# Altium schematic symbol library 686 1xx 148 922.SchLib: 15 symbols
Pins are listed as number, name and electrical type; pins without a type are passive.

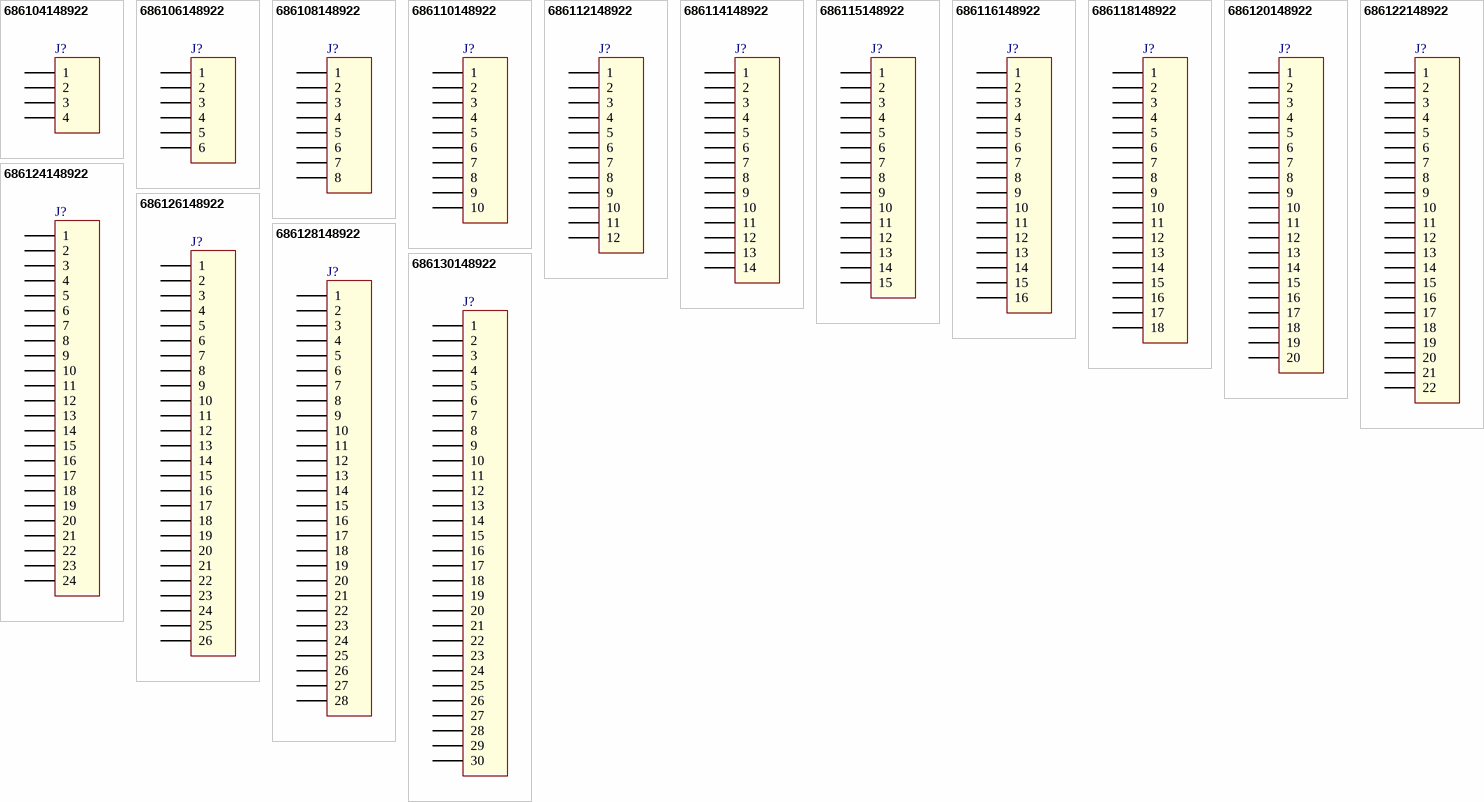
[diagram p0: symbols 686104148922 to 686130148922]

## 686104148922
designator J?
SMT ZIF Horizontal - Bottom Contact - 1.00 mm Hinge Type - WR-FPC, 4 pins; Part Number: 686104148922; Pitch: 1 mm; Pin Number: 4; ComponentLink1Description: Manufacturer; ComponentLink1URL: http://www.we-online.de; ComponentLink2Description: Datasheet; ComponentLink2URL: http://katalog.we-online.com/em/datasheet/6861xx148922.pdf; Published Date: April 2017; Publisher: Wurth Elektronik
footprint 686104148922 (SMT ZIF Horizontal - Bottom Contact - 1.00 mm Hinge Type, 4p)
pins: 1, 2, 3, 4

## 686106148922
designator J?
SMT ZIF Horizontal - Bottom Contact - 1.00 mm Hinge Type - WR-FPC, 6 pins; Part Number: 686106148922; Pitch: 1 mm; Pin Number: 6; ComponentLink1Description: Manufacturer; ComponentLink1URL: http://www.we-online.de; ComponentLink2Description: Datasheet; ComponentLink2URL: http://katalog.we-online.com/em/datasheet/6861xx148922.pdf; Published Date: April 2017; Publisher: Wurth Elektronik
footprint 686106148922 (SMT ZIF Horizontal - Bottom Contact - 1.00 mm Hinge Type, 6p)
pins: 1, 2, 3, 4, 5, 6

## 686108148922
designator J?
SMT ZIF Horizontal - Bottom Contact - 1.00 mm Hinge Type - WR-FPC, 8 pins; Part Number: 686108148922; Pitch: 1 mm; Pin Number: 8; ComponentLink1Description: Manufacturer; ComponentLink1URL: http://www.we-online.de; ComponentLink2Description: Datasheet; ComponentLink2URL: http://katalog.we-online.com/em/datasheet/6861xx148922.pdf; Published Date: April 2017; Publisher: Wurth Elektronik
footprint 686108148922 (SMT ZIF Horizontal - Bottom Contact - 1.00 mm Hinge Type, 8p)
pins: 1, 2, 3, 4, 5, 6, 7, 8

## 686110148922
designator J?
SMT ZIF Horizontal - Bottom Contact - 1.00 mm Hinge Type - WR-FPC, 10 pins; Part Number: 686110148922; Pitch: 1 mm; Pin Number: 10; ComponentLink1Description: Manufacturer; ComponentLink1URL: http://www.we-online.de; ComponentLink2Description: Datasheet; ComponentLink2URL: http://katalog.we-online.com/em/datasheet/6861xx148922.pdf; Published Date: April 2017; Publisher: Wurth Elektronik
footprint 686110148922 (SMT ZIF Horizontal - Bottom Contact - 1.00 mm Hinge Type, 10p)
pins: 1, 2, 3, 4, 5, 6, 7, 8, 9, 10

## 686112148922
designator J?
SMT ZIF Horizontal - Bottom Contact - 1.00 mm Hinge Type - WR-FPC, 12 pins; Part Number: 686112148922; Pitch: 1 mm; Pin Number: 12; ComponentLink1Description: Manufacturer; ComponentLink1URL: http://www.we-online.de; ComponentLink2Description: Datasheet; ComponentLink2URL: http://katalog.we-online.com/em/datasheet/6861xx148922.pdf; Published Date: April 2017; Publisher: Wurth Elektronik
footprint 686112148922 (SMT ZIF Horizontal - Bottom Contact - 1.00 mm Hinge Type, 12p)
pins: 1, 2, 3, 4, 5, 6, 7, 8, 9, 10, 11, 12

## 686114148922
designator J?
SMT ZIF Horizontal - Bottom Contact - 1.00 mm Hinge Type - WR-FPC, 14 pins; Part Number: 686114148922; Pitch: 1 mm; Pin Number: 14; ComponentLink1Description: Manufacturer; ComponentLink1URL: http://www.we-online.de; ComponentLink2Description: Datasheet; ComponentLink2URL: http://katalog.we-online.com/em/datasheet/6861xx148922.pdf; Published Date: April 2017; Publisher: Wurth Elektronik
footprint 686114148922 (SMT ZIF Horizontal - Bottom Contact - 1.00 mm Hinge Type, 14p)
pins: 1, 2, 3, 4, 5, 6, 7, 8, 9, 10, 11, 12, 13, 14

## 686115148922
designator J?
SMT ZIF Horizontal - Bottom Contact - 1.00 mm Hinge Type - WR-FPC, 15 pins; Part Number: 686115148922; Pitch: 1 mm; Pin Number: 15; ComponentLink1Description: Manufacturer; ComponentLink1URL: http://www.we-online.de; ComponentLink2Description: Datasheet; ComponentLink2URL: http://katalog.we-online.com/em/datasheet/6861xx148922.pdf; Published Date: April 2017; Publisher: Wurth Elektronik
footprint 686115148922 (SMT ZIF Horizontal - Bottom Contact - 1.00 mm Hinge Type, 15p)
pins: 1, 2, 3, 4, 5, 6, 7, 8, 9, 10, 11, 12, 13, 14, 15

## 686116148922
designator J?
SMT ZIF Horizontal - Bottom Contact - 1.00 mm Hinge Type - WR-FPC, 16 pins; Part Number: 686116148922; Pitch: 1 mm; Pin Number: 16; ComponentLink1Description: Manufacturer; ComponentLink1URL: http://www.we-online.de; ComponentLink2Description: Datasheet; ComponentLink2URL: http://katalog.we-online.com/em/datasheet/6861xx148922.pdf; Published Date: April 2017; Publisher: Wurth Elektronik
footprint 686116148922 (SMT ZIF Horizontal - Bottom Contact - 1.00 mm Hinge Type, 16p)
pins: 1, 2, 3, 4, 5, 6, 7, 8, 9, 10, 11, 12, 13, 14, 15, 16

## 686118148922
designator J?
SMT ZIF Horizontal - Bottom Contact - 1.00 mm Hinge Type - WR-FPC, 18 pins; Part Number: 686118148922; Pitch: 1 mm; Pin Number: 18; ComponentLink1Description: Manufacturer; ComponentLink1URL: http://www.we-online.de; ComponentLink2Description: Datasheet; ComponentLink2URL: http://katalog.we-online.com/em/datasheet/6861xx148922.pdf; Published Date: April 2017; Publisher: Wurth Elektronik
footprint 686118148922 (SMT ZIF Horizontal - Bottom Contact - 1.00 mm Hinge Type, 18p)
pins: 1, 2, 3, 4, 5, 6, 7, 8, 9, 10, 11, 12, 13, 14, 15, 16, 17, 18

## 686120148922
designator J?
SMT ZIF Horizontal - Bottom Contact - 1.00 mm Hinge Type - WR-FPC, 20 pins; Part Number: 686120148922; Pitch: 1 mm; Pin Number: 20; ComponentLink1Description: Manufacturer; ComponentLink1URL: http://www.we-online.de; ComponentLink2Description: Datasheet; ComponentLink2URL: http://katalog.we-online.com/em/datasheet/6861xx148922.pdf; Published Date: April 2017; Publisher: Wurth Elektronik
footprint 686120148922 (SMT ZIF Horizontal - Bottom Contact - 1.00 mm Hinge Type, 20p)
pins: 1, 2, 3, 4, 5, 6, 7, 8, 9, 10, 11, 12, 13, 14, 15, 16, 17, 18, 19, 20

## 686122148922
designator J?
SMT ZIF Horizontal - Bottom Contact - 1.00 mm Hinge Type - WR-FPC, 22 pins; Part Number: 686122148922; Pitch: 1 mm; Pin Number: 22; ComponentLink1Description: Manufacturer; ComponentLink1URL: http://www.we-online.de; ComponentLink2Description: Datasheet; ComponentLink2URL: http://katalog.we-online.com/em/datasheet/6861xx148922.pdf; Published Date: April 2017; Publisher: Wurth Elektronik
footprint 686122148922 (SMT ZIF Horizontal - Bottom Contact - 1.00 mm Hinge Type, 22p)
pins: 1, 2, 3, 4, 5, 6, 7, 8, 9, 10, 11, 12, 13, 14, 15, 16, 17, 18, 19, 20, 21, 22

## 686124148922
designator J?
SMT ZIF Horizontal - Bottom Contact - 1.00 mm Hinge Type - WR-FPC, 24 pins; Part Number: 686124148922; Pitch: 1 mm; Pin Number: 24; ComponentLink1Description: Manufacturer; ComponentLink1URL: http://www.we-online.de; ComponentLink2Description: Datasheet; ComponentLink2URL: http://katalog.we-online.com/em/datasheet/6861xx148922.pdf; Published Date: April 2017; Publisher: Wurth Elektronik
footprint 686124148922 (SMT ZIF Horizontal - Bottom Contact - 1.00 mm Hinge Type, 24p)
pins: 1, 2, 3, 4, 5, 6, 7, 8, 9, 10, 11, 12, 13, 14, 15, 16, 17, 18, 19, 20, 21, 22, 23, 24

## 686126148922
designator J?
SMT ZIF Horizontal - Bottom Contact - 1.00 mm Hinge Type - WR-FPC, 26 pins; Part Number: 686126148922; Pitch: 1 mm; Pin Number: 26; ComponentLink1Description: Manufacturer; ComponentLink1URL: http://www.we-online.de; ComponentLink2Description: Datasheet; ComponentLink2URL: http://katalog.we-online.com/em/datasheet/6861xx148922.pdf; Published Date: April 2017; Publisher: Wurth Elektronik
footprint 686126148922 (SMT ZIF Horizontal - Bottom Contact - 1.00 mm Hinge Type, 26p)
pins: 1, 2, 3, 4, 5, 6, 7, 8, 9, 10, 11, 12, 13, 14, 15, 16, 17, 18, 19, 20, 21, 22, 23, 24, 25, 26

## 686128148922
designator J?
SMT ZIF Horizontal - Bottom Contact - 1.00 mm Hinge Type - WR-FPC, 28 pins; Part Number: 686128148922; Pitch: 1 mm; Pin Number: 28; ComponentLink1Description: Manufacturer; ComponentLink1URL: http://www.we-online.de; ComponentLink2Description: Datasheet; ComponentLink2URL: http://katalog.we-online.com/em/datasheet/6861xx148922.pdf; Published Date: April 2017; Publisher: Wurth Elektronik
footprint 686128148922 (SMT ZIF Horizontal - Bottom Contact - 1.00 mm Hinge Type, 28p)
pins: 1, 2, 3, 4, 5, 6, 7, 8, 9, 10, 11, 12, 13, 14, 15, 16, 17, 18, 19, 20, 21, 22, 23, 24, 25, 26, 27, 28

## 686130148922
designator J?
SMT ZIF Horizontal - Bottom Contact - 1.00 mm Hinge Type - WR-FPC, 30 pins; Part Number: 686130148922; Pitch: 1 mm; Pin Number: 30; ComponentLink1Description: Manufacturer; ComponentLink1URL: http://www.we-online.de; ComponentLink2Description: Datasheet; ComponentLink2URL: http://katalog.we-online.com/em/datasheet/6861xx148922.pdf; Published Date: April 2017; Publisher: Wurth Elektronik
footprint 686130148922 (SMT ZIF Horizontal - Bottom Contact - 1.00 mm Hinge Type, 30p)
pins: 1, 2, 3, 4, 5, 6, 7, 8, 9, 10, 11, 12, 13, 14, 15, 16, 17, 18, 19, 20, 21, 22, 23, 24, 25, 26, 27, 28, 29, 30